# EAGLE library part 418217170903 (library EAGLE-TACT_SWITCHES-rev17c)
WS-RA 2.54 mm right angled compact THT Dip Switch with flat actuator, 3 Pole
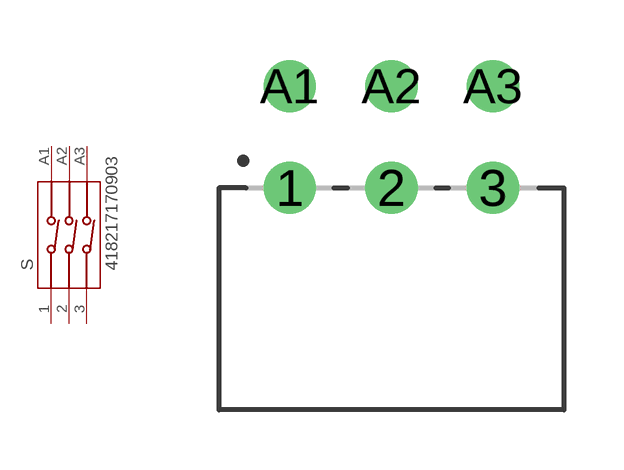
[diagram p55: symbol with the pads of 418217170903; footprint 418217170903]

Designator prefix S

## 418217170903  [418217170903]
1  1  pas
2  2  pas
3  3  pas
A1  A1  pas
A2  A2  pas
A3  A3  pas

## Footprint 418217170903 (pad centres in mm)
WS-RA 2.54 mm right angled compact THT Dip Switch with flat actuator, 3 Pole
drill 0.8: 1 -2.54,-1.27; 2 0,-1.27; 3 2.54,-1.27; A1 -2.54,1.27; A2 0,1.27; A3 2.54,1.27